# EAGLE library part ORANGEPIZERO_V2 (library Embedded > SBC)
It’s an open-source single-board computer. It can run Android 4.4, Ubuntu, Debian. It uses the AllWinner H2 SoC, and has 256MB/512MB DDR3 SDRAM(256MB version is Standard version
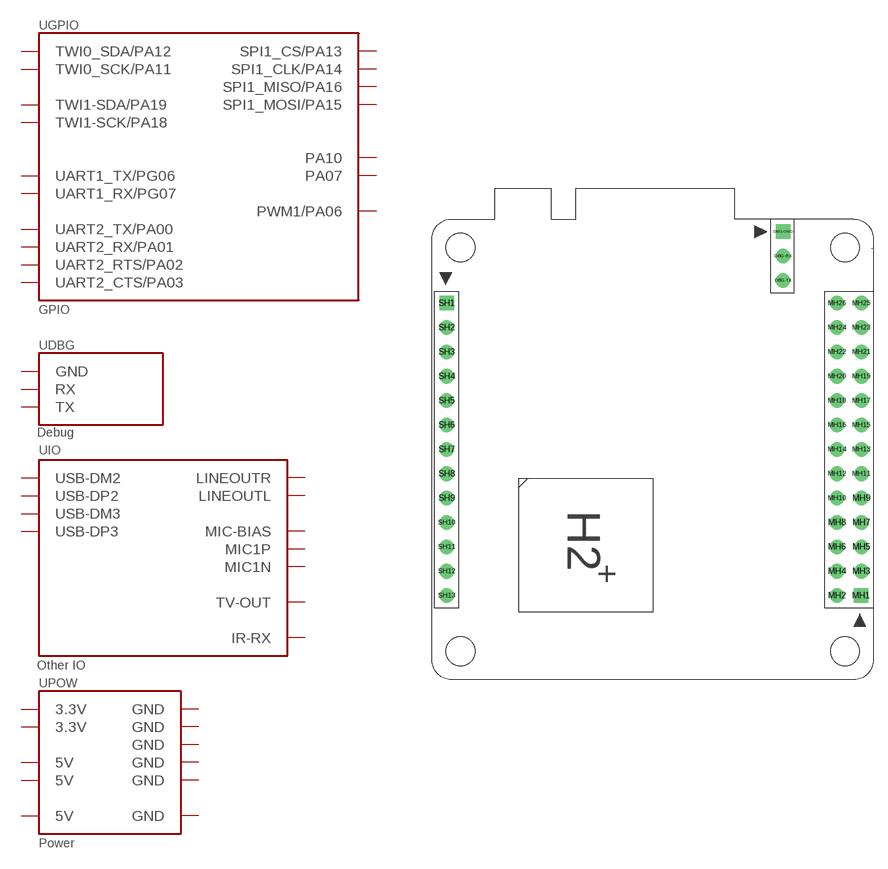
[diagram p5: symbol with the pads of ORANGEPIZERO_V2; footprint ORANGEPIZERO_V2]

Designator prefix U; gates DBG=OPI0-DBG GPIO=OPI0-GPIO IO=OPI0-OTHER POW=OPI0-POWER

## ORANGEPIZERO_V2  [ORANGEPIZERO_V2]
DBG-GND  DBG:GND
DBG-RX  DBG:RX
DBG-TX  DBG:TX
MH1  POW:3.3V
MH2  POW:5V
MH3  GPIO:TWI0_SDA/PA12
MH4  POW:5V
MH5  GPIO:TWI0_SCK/PA11
MH6  POW:GND
MH7  GPIO:PWM1/PA06
MH8  GPIO:UART1_TX/PG06
MH9  POW:GND
MH10  GPIO:UART1_RX/PG07
MH11  GPIO:UART2_RX/PA01
MH12  GPIO:PA07
MH13  GPIO:UART2_TX/PA00
MH14  POW:GND
MH15  GPIO:UART2_CTS/PA03
MH16  GPIO:TWI1-SDA/PA19
MH17  POW:3.3V
MH18  GPIO:TWI1-SCK/PA18
MH19  GPIO:SPI1_MOSI/PA15
MH20  POW:GND
MH21  GPIO:SPI1_MISO/PA16
MH22  GPIO:UART2_RTS/PA02
MH23  GPIO:SPI1_CLK/PA14
MH24  GPIO:SPI1_CS/PA13
MH25  POW:GND
MH26  GPIO:PA10
SH1  POW:5V
SH2  POW:GND
SH3  IO:USB-DM2
SH4  IO:USB-DP2
SH5  IO:USB-DM3
SH6  IO:USB-DP3
SH7  IO:LINEOUTR
SH8  IO:LINEOUTL
SH9  IO:TV-OUT
SH10  IO:MIC-BIAS
SH11  IO:MIC1P
SH12  IO:MIC1N
SH13  IO:IR-RX

## Footprint ORANGEPIZERO_V2 (pad centres in mm)
It’s an open-source single-board computer. It can run Android 4.4, Ubuntu, Debian. It uses the AllWinner H2 SoC, and has 256MB/512MB DDR3 SDRAM(256MB version is Standard version
drill 1.016 square: DBG-GND 14.617,23.974; MH1 22.766,-13.97; SH1 -20.453,16.51
drill 1.016: DBG-RX 14.617,21.432; DBG-TX 14.617,18.894; MH2 20.256,-13.97; MH3 22.796,-11.43; MH4 20.256,-11.43; MH5 22.796,-8.89; MH6 20.256,-8.89; MH7 22.796,-6.35; MH8 20.256,-6.35; MH9 22.796,-3.81; MH10 20.256,-3.81; MH11 22.796,-1.27; MH12 20.256,-1.27; MH13 22.796,1.27; MH14 20.256,1.27; MH15 22.796,3.81; MH16 20.256,3.81; MH17 22.796,6.35; MH18 20.256,6.35; MH19 22.796,8.89; MH20 20.256,8.89; MH21 22.796,11.43; MH22 20.256,11.43; MH23 22.796,13.97; MH24 20.256,13.97; MH25 22.796,16.51; MH26 20.256,16.51; SH2 -20.453,13.97; SH3 -20.453,11.43; SH4 -20.453,8.89; SH5 -20.453,6.35; SH6 -20.453,3.81; SH7 -20.453,1.27; SH8 -20.453,-1.27; SH9 -20.453,-3.81; SH10 -20.453,-6.35; SH11 -20.453,-8.89; SH12 -20.453,-11.43; SH13 -20.453,-13.97
hole 3 at -19.039,-19.785
hole 3 at 21.071,-19.785
hole 3 at -19.039,22.325
hole 3 at 21.071,22.325